# EAGLE library part GTL2002 (library talons)
GTL2002 - 2-Bit Bidirectional Low Voltage Translator Product page <http://www.nxp.com/products/interface_and_connectivity/i2c/i2c_voltage_level_translators/series/GTL2002.html> Datasheet <http://www.nxp.com/documents/data_sheet/GTL2002.pdf> Octopart <https://octopart.com/search?q=GTL2002> Farnell.de <http://de.farnell.com/nxp/gtl2002d/ic-gtl-nied-spann-umsetzer-8soic/dp/2212066?ost=2212066>
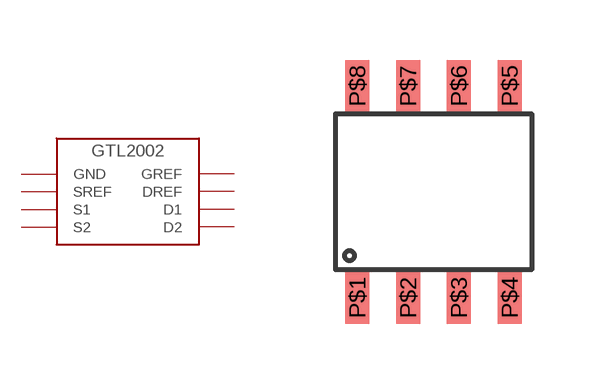
[diagram p10: symbol with the pads of SO8; footprint SO8]

Designator prefix -

## GTL2002D  [SO8]
P$1  GND  pwr
P$2  SREF  pwr
P$3  S1
P$4  S2
P$5  D2
P$6  D1
P$7  DREF  pwr
P$8  GREF  pwr

## Footprint SO8 (pad centres in mm)
smd 0.6 x 1.3: P$1 -1.905,-2.65; P$2 -0.635,-2.65; P$3 0.635,-2.65; P$4 1.905,-2.65; P$5 1.905,2.65; P$6 0.635,2.65; P$7 -0.635,2.65; P$8 -1.905,2.65